# EAGLE library part LSM9DS1 (library MRDT-Sensors)
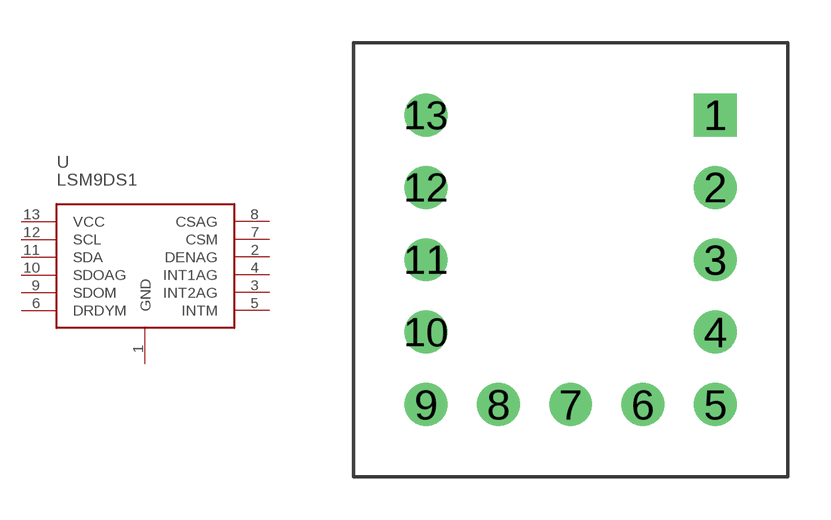
[diagram p0: symbol with the pads of LSM9DS1_BREAKOUT; footprint LSM9DS1_BREAKOUT]

Designator prefix U

## LSM9DS1  [LSM9DS1_BREAKOUT]
1  GND
2  DENAG
3  INT2AG
4  INT1AG
5  INTM
6  DRDYM
7  CSM
8  CSAG
9  SDOM
10  SDOAG
11  SDA
12  SCL
13  VCC

## Footprint LSM9DS1_BREAKOUT (pad centres in mm)
drill 1 square: 1 5.08,5.08
drill 1: 2 5.08,2.54; 3 5.08,0; 4 5.08,-2.54; 5 5.08,-5.08; 6 2.54,-5.08; 7 0,-5.08; 8 -2.54,-5.08; 9 -5.08,-5.08; 10 -5.08,-2.54; 11 -5.08,0; 12 -5.08,2.54; 13 -5.08,5.08